# Altium footprint library PcbLib.PcbLib: 65 footprints (part 4 of 5)
Each footprint in its own frame and in the unit in brackets; x right, y up, seen from the top. Pads: shape width x height; smd on the part's side, far side on the other; paste and mask are expansions set on the pad; w line width, h text height; cw(c..) or ccw(c..) is an arc to the next point about the centre after c.
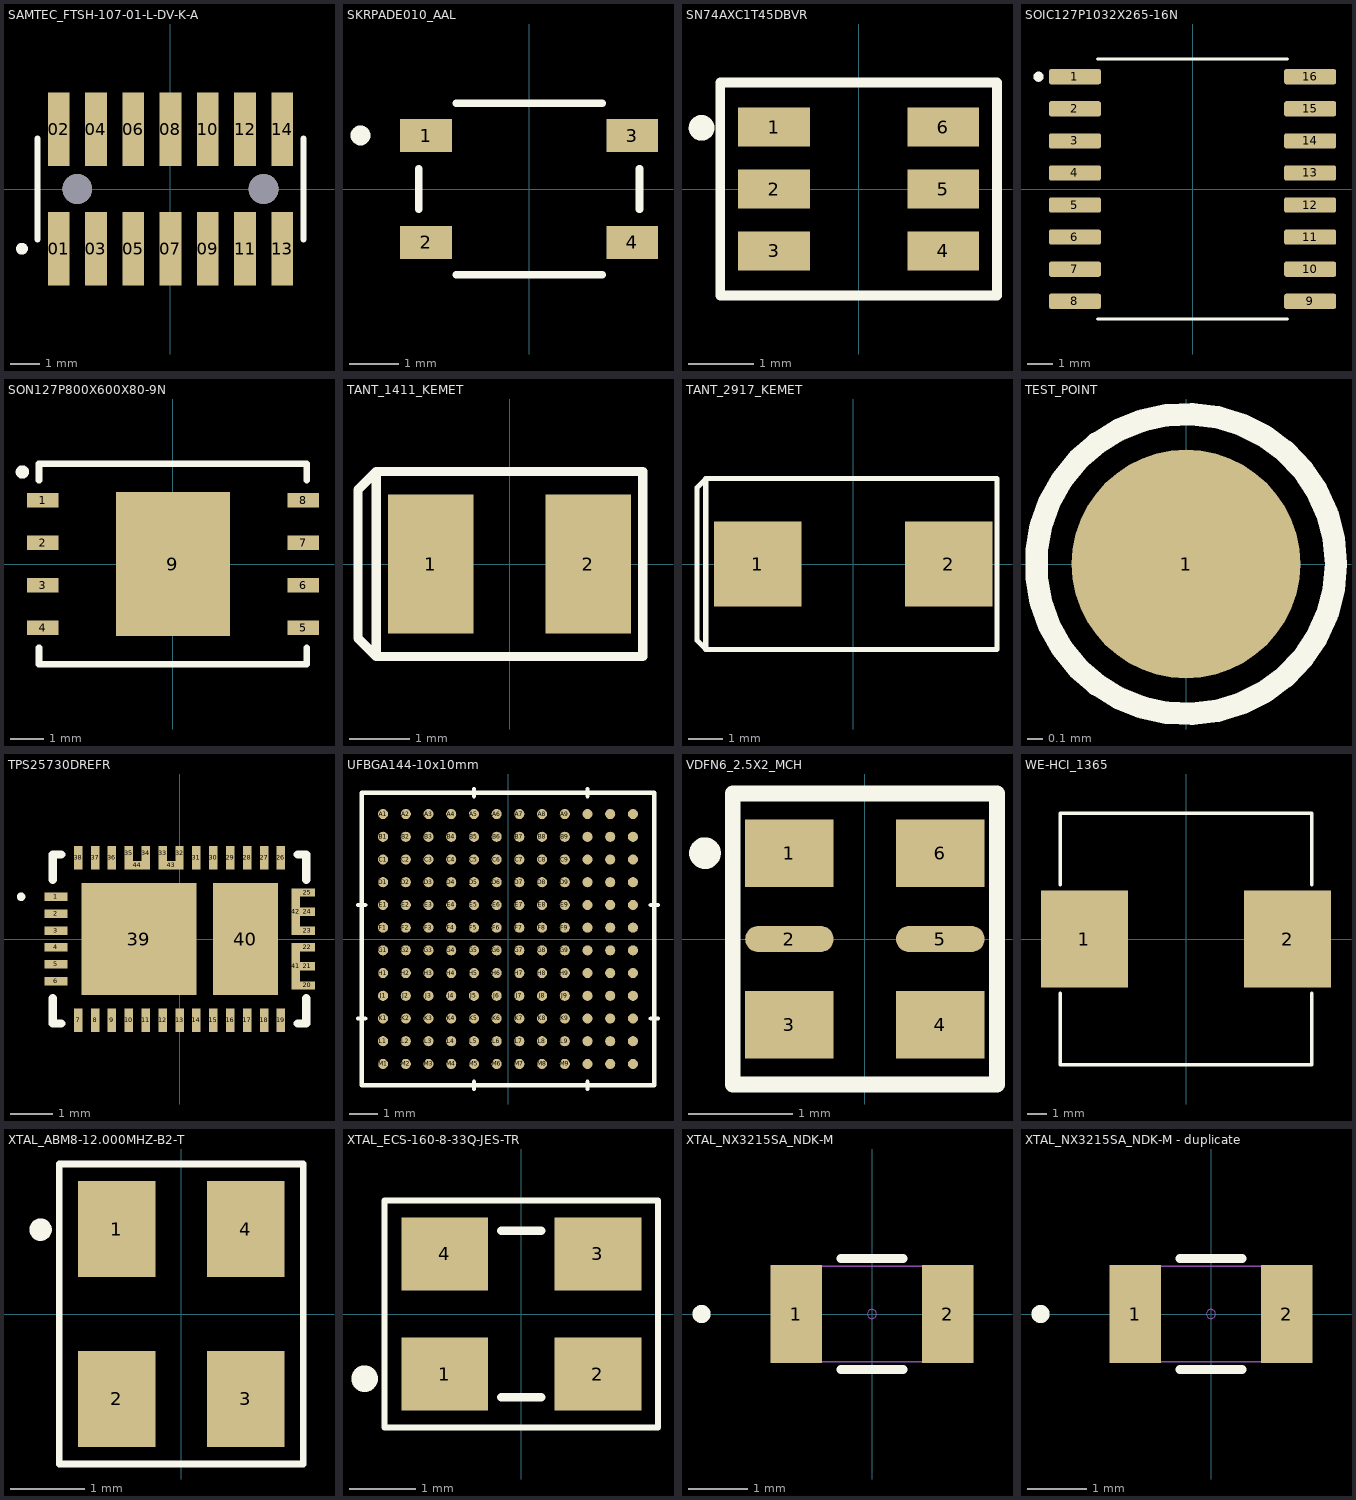
[diagram p3: the footprints below, top view; thin cyan lines are the x and y axes]

## SAMTEC_FTSH-107-01-L-DV-K-A [mm]
pads (16):
  rect 0.74x2.5 smd: 01(-3.81,-2.035) 02(-3.81,2.035) 03(-2.54,-2.035) 04(-2.54,2.035) 05(-1.27,-2.035) 06(-1.27,2.035) 07(0,-2.035) 08(0,2.035) 09(1.27,-2.035) 10(1.27,2.035) 11(2.54,-2.035) 12(2.54,2.035) 13(3.81,-2.035) 14(3.81,2.035)
  round 1.02 hole 1.02 unplated: ""(-3.175,0) ""(3.175,0)
Top Overlay:
  circle w0.2: c-5.06,-2.035 r0.1
  lines w0.2: -4.53,-1.715 -4.53,1.715 ; 4.53,-1.715 4.53,1.715
Bottom Solder:
  circle w0: c-3.175,0 r0.561
  circle w0: c3.175,0 r0.561
3D body "FTSH-107-01-L-DV-K-A.stp": height 6.1, standoff -0.89, extent -4.445,-2.921 4.445,2.921

## SKRPADE010_AAL [mm]
pads (4):
  rect 1.041x0.66 smd paste+0 mask+0: 1(-2.075,1.075) 2(-2.075,-1.075) 3(2.075,1.075) 4(2.075,-1.075)
Top Overlay:
  lines w0.152: -2.222,-0.412 -2.222,0.412 ; -1.47,-1.727 1.47,-1.727 ; -1.47,1.727 1.47,1.727 ; 2.222,-0.412 2.222,0.412
  lines w0.3: -3.429,1.041 cw(c-3.396,1.079) -3.419,1.035
3D body "skrpade010.stp": height 2.5, standoff 0, extent -2.3,-1.6 2.3,1.6

## SN74AXC1T45DBVR [mm]
pads (6):
  rect 1.1x0.6 smd mask+0.07: 1(-1.3,0.95) 2(-1.3,0) 3(-1.3,-0.95) 4(1.3,-0.95) 5(1.3,0) 6(1.3,0.95)
Top Overlay:
  lines w0.152: -2.127,-1.638 2.127,-1.638 2.127,1.638 -2.127,1.638 -2.127,-1.638
  lines w0.254: -2.343,0.947 ccw(c-2.413,0.94) -2.342,0.94
3D body "SN74AXC1T45DBVR.STEP": height 1.45, standoff 0, extent -1.4,-1.45 1.4,1.45

## SOIC127P1032X265-16N [mm]
height 2.65
pads (16):
  rrect25% 2.05x0.6 smd mask+0.05: 1(-4.655,4.445) 2(-4.655,3.175) 3(-4.655,1.905) 4(-4.655,0.635) 5(-4.655,-0.635) 6(-4.655,-1.905) 7(-4.655,-3.175) 8(-4.655,-4.445) 9(4.655,-4.445) 10(4.655,-3.175) 11(4.655,-1.905) 12(4.655,-0.635) 13(4.655,0.635) 14(4.655,1.905) 15(4.655,3.175) 16(4.655,4.445)
Top Overlay:
  circle w0.2: c-6.096,4.445 r0.1
  lines w0.127: -3.75,-5.15 3.75,-5.15 ; -3.75,5.15 3.75,5.15
3D body "step_temp.STEP": height 2.65, standoff 0, extent -5.162,-5.15 5.162,5.15

## SON127P800X600X80-9N [mm]
pads (9):
  rect 0.94x0.44 smd: 1(-3.895,1.905) 2(-3.895,0.635) 3(-3.895,-0.635) 4(-3.895,-1.905) 5(3.895,-1.905) 6(3.895,-0.635) 7(3.895,0.635) 8(3.895,1.905)
  rect 3.4x4.3 smd paste-3: 9(0,0)
Top Overlay:
  circle w0.2: c-4.5,2.75 r0.1
  lines w0.2: -4,-2.5 -4,-3 4,-3 4,-2.5 ; -4,2.5 -4,3 4,3 4,2.5
Top Paste:
  region: -0.185,0.185 -1.335,0.185 -1.335,1.785 -0.185,1.785
  region: -0.185,-1.785 -1.335,-1.785 -1.335,-0.185 -0.185,-0.185
  region: 1.335,0.185 0.185,0.185 0.185,1.785 1.335,1.785
  region: 1.335,-1.785 0.185,-1.785 0.185,-0.185 1.335,-0.185
3D body "step_temp.STEP": height 0.8, standoff 0, extent -4,-3 4,3

## TANT_1411_KEMET [mm]
pads (2):
  rect 1.405x2.3 smd paste+0 mask+0: 1(-1.3,0) 2(1.3,0)
Top Overlay:
  lines w0.152: -2.2,-1.527 -2.5,-1.227 -2.5,1.227 -2.2,1.527 ; -2.2,-1.527 -1.977,-1.527 1.977,-1.527 2.2,-1.527 2.2,1.527 1.977,1.527 -1.977,1.527 -2.2,1.527 ; -2.2,-1.527 -2.2,1.527
3D body "CAPMP37X28_21N_KEM.step": height 2.15, standoff 0, extent -1.85,-1.4 1.85,1.4

## TANT_2917_KEMET [mm]
pads (2):
  rect 2.56x2.5 smd paste+0 mask+0: 1(-2.794,0) 2(2.794,0)
Top Overlay:
  lines w0.152: -4.572,-2.228 -4.318,-2.482 -4.318,2.482 -4.572,2.228 -4.572,-2.228 ; -4.318,-2.5 4.2,-2.5 4.2,2.5 -4.318,2.5 -4.318,-2.5
3D body "CTSM_TCM2NKKO_7343_L7.6W4.6H3.1T0.13S1.3F2.5A3.8B0.65P0.9R1X0.2.step": height 3.11, standoff 0, extent -3.8,-2.314 3.8,2.286

## TEST_POINT [mil]
pads (1):
  round 60 smd paste-23 mask+1.97: 1(0,0)
Top Overlay:
  circle w5.91: c0,0 r39.37

## TPS25730DREFR [mm]
pads (44):
  rect 0.55x0.2 smd: 1(-2.925,1) 2(-2.925,0.6) 3(-2.925,0.2) 4(-2.925,-0.2) 5(-2.925,-0.6) 6(-2.925,-1)
  rect 0.2x0.55 smd: 7(-2.4,-1.925) 8(-2,-1.925) 9(-1.6,-1.925) 10(-1.2,-1.925) 11(-0.8,-1.925) 12(-0.4,-1.925) 13(0,-1.925) 14(0.4,-1.925) 15(0.8,-1.925) 16(1.2,-1.925) 17(1.6,-1.925) 18(2,-1.925) 19(2.4,-1.925) 26(2.4,1.925) 27(2,1.925) 28(1.6,1.925) 29(1.2,1.925) 30(0.8,1.925) 31(0.4,1.925) 36(-1.6,1.925) 37(-2,1.925) 38(-2.4,1.925)
  rect 0.35x0.2 smd: 20(3.025,-1.1) 21(3.025,-0.65) 22(3.025,-0.2) 23(3.025,0.2) 24(3.025,0.65) 25(3.025,1.1)
  rect 0.2x0.35 smd: 32(-0.001,2.025) 33(-0.401,2.025) 34(-0.801,2.025) 35(-1.201,2.025)
  rect 2.72x2.65 smd: 39(-0.965,0)
  rect 1.53x2.65 smd: 40(1.56,0)
  rect 0.2x1.1 smd: 41(2.749,-0.65) 42(2.75,0.65)
  rect 0.6x0.2 smd: 43(-0.201,1.75) 44(-1.001,1.75)
Top Overlay:
  lines w0.1: -3.8,1 cw(c-3.75,1) -3.7,1 cw(c-3.75,1) -3.8,1
  lines w0.2: -3,-1.4 -3,-2 -2.8,-2 ; -3,1.4 -3,2 -2.8,2 ; 2.8,-2 3,-2 3,-1.4 ; 2.8,2 3,2 3,1.4
3D body "TPS25730DREFR.stp": height 0.8, standoff 0, extent -3,-2 3,2

## UFBGA144-10x10mm [mm]
pads (144):
  round 0.356 smd paste+0 mask+0: A1(-4.4,4.4) A2(-3.6,4.4) A3(-2.8,4.4) A4(-2,4.4) A5(-1.2,4.4) A6(-0.4,4.4) A7(0.4,4.4) A8(1.2,4.4) A9(2,4.4) A10(2.8,4.4) A11(3.6,4.4) A12(4.4,4.4) B1(-4.4,3.6) B2(-3.6,3.6) B3(-2.8,3.6) B4(-2,3.6) B5(-1.2,3.6) B6(-0.4,3.6) B7(0.4,3.6) B8(1.2,3.6) B9(2,3.6) B10(2.8,3.6) B11(3.6,3.6) B12(4.4,3.6) C1(-4.4,2.8) C2(-3.6,2.8) C3(-2.8,2.8) C4(-2,2.8) C5(-1.2,2.8) C6(-0.4,2.8) C7(0.4,2.8) C8(1.2,2.8) C9(2,2.8) C10(2.8,2.8) C11(3.6,2.8) C12(4.4,2.8) D1(-4.4,2) D2(-3.6,2) D3(-2.8,2) D4(-2,2) D5(-1.2,2) D6(-0.4,2) D7(0.4,2) D8(1.2,2) D9(2,2) D10(2.8,2) D11(3.6,2) D12(4.4,2) E1(-4.4,1.2) E2(-3.6,1.2) E3(-2.8,1.2) E4(-2,1.2) E5(-1.2,1.2) E6(-0.4,1.2) E7(0.4,1.2) E8(1.2,1.2) E9(2,1.2) E10(2.8,1.2) E11(3.6,1.2) E12(4.4,1.2) F1(-4.4,0.4) F2(-3.6,0.4) F3(-2.8,0.4) F4(-2,0.4) F5(-1.2,0.4) F6(-0.4,0.4) F7(0.4,0.4) F8(1.2,0.4) F9(2,0.4) F10(2.8,0.4) F11(3.6,0.4) F12(4.4,0.4) G1(-4.4,-0.4) G2(-3.6,-0.4) G3(-2.8,-0.4) G4(-2,-0.4) G5(-1.2,-0.4) G6(-0.4,-0.4) G7(0.4,-0.4) G8(1.2,-0.4) G9(2,-0.4) G10(2.8,-0.4) G11(3.6,-0.4) G12(4.4,-0.4) H1(-4.4,-1.2) H2(-3.6,-1.2) H3(-2.8,-1.2) H4(-2,-1.2) H5(-1.2,-1.2) H6(-0.4,-1.2) H7(0.4,-1.2) H8(1.2,-1.2) H9(2,-1.2) H10(2.8,-1.2) H11(3.6,-1.2) H12(4.4,-1.2) J1(-4.4,-2) J2(-3.6,-2) J3(-2.8,-2) J4(-2,-2) J5(-1.2,-2) J6(-0.4,-2) J7(0.4,-2) J8(1.2,-2) J9(2,-2) J10(2.8,-2) J11(3.6,-2) J12(4.4,-2) K1(-4.4,-2.8) K2(-3.6,-2.8) K3(-2.8,-2.8) K4(-2,-2.8) K5(-1.2,-2.8) K6(-0.4,-2.8) K7(0.4,-2.8) K8(1.2,-2.8) K9(2,-2.8) K10(2.8,-2.8) K11(3.6,-2.8) K12(4.4,-2.8) L1(-4.4,-3.6) L2(-3.6,-3.6) L3(-2.8,-3.6) L4(-2,-3.6) L5(-1.2,-3.6) L6(-0.4,-3.6) L7(0.4,-3.6) L8(1.2,-3.6) L9(2,-3.6) L10(2.8,-3.6) L11(3.6,-3.6) L12(4.4,-3.6) M1(-4.4,-4.4) M2(-3.6,-4.4) M3(-2.8,-4.4) M4(-2,-4.4) M5(-1.2,-4.4) M6(-0.4,-4.4) M7(0.4,-4.4) M8(1.2,-4.4) M9(2,-4.4) M10(2.8,-4.4) M11(3.6,-4.4) M12(4.4,-4.4)
Top Overlay:
  lines w0.152: -5.283,-2.8 -5.029,-2.8 ; -5.283,1.2 -5.029,1.2 ; -1.2,-5.283 -1.2,-5.029 ; -1.2,5.029 -1.2,5.283 ; 2.8,-5.283 2.8,-5.029 ; 2.8,5.029 2.8,5.283 ; 5.029,-2.8 5.283,-2.8 ; 5.029,1.2 5.283,1.2 ; -5.156,-5.156 5.156,-5.156 5.156,5.156 -5.156,5.156 -5.156,-5.156
3D body "UFBGA144-10x10mm.step": height 0.61, standoff 0, extent -5.029,-5.029 5.029,5.029

## VDFN6_2.5X2_MCH [mm]
pads (6):
  rect 0.85x0.65 smd paste-0.325 mask+0: 1(-0.725,0.825) 3(-0.725,-0.825) 4(0.725,-0.825) 6(0.725,0.825)
  oval 0.85x0.25 smd paste+0 mask+0: 2(-0.725,0) 5(0.725,0)
Top Overlay:
  circle w0.152: c-1.537,0.825 r0.076
  lines w0.152: -1.27,-1.397 -1.27,1.397 1.27,1.397 1.27,-1.397 -1.27,-1.397
3D body "VDFN6_25X2_MCH.step": height 0.65, standoff 0, extent -1,-1.25 1,1.25

## WE-HCI_1365 [mm]
pads (2):
  rect 4.5x5 smd: 1(-5.25,0) 2(5.25,0)
Top Overlay:
  lines w0.2: -6.5,-2.8 -6.5,-6.5 6.5,-6.5 6.5,-2.8 ; -6.5,2.8 -6.5,6.5 6.5,6.5 6.5,2.8
3D body "WE-HCI_1365_7443551+%28rev1%29.stp": height 6.17, standoff -0.03, extent -6.5,-6.4 6.5,6.4

## XTAL_ABM8-12.000MHZ-B2-T [mm]
height 0.8
pads (4):
  rect 1.05x1.3 smd: 1(-0.875,1.15) 2(-0.875,-1.15) 3(0.875,-1.15) 4(0.875,1.15)
Top Overlay:
  circle w0.152: c-1.905,1.143 r0.076
  lines w0.089: -1.651,-2.032 1.651,-2.032 1.651,2.032 -1.651,2.032 -1.651,-2.032
3D body "step_temp.STEP": height 0.8, standoff 0, extent -1.25,-1.6 1.25,1.6

## XTAL_ECS-160-8-33Q-JES-TR [mm]
pads (4):
  rect 1.3x1.1 smd: 1(-1.15,-0.9) 2(1.15,-0.9) 3(1.15,0.9) 4(-1.15,0.9)
Top Overlay:
  circle w0.2: c-2.35,-0.97 r0.1
  lines w0.091: -2.05,-1.7 2.05,-1.7 2.05,1.7 -2.05,1.7 -2.05,-1.7
  lines w0.127: -0.3,-1.25 0.3,-1.25 ; -0.3,1.25 0.3,1.25
3D body "step_temp.STEP": height 0.8, standoff 0, extent -1.6,-1.25 1.6,1.25

## XTAL_NX3215SA_NDK-M [mil]
pads (2):
  rect 34x65 smd paste+0 mask+0: 1(-50,0) 2(50,0)
Top Overlay:
  circle w6: c-112.5,0 r3
  lines w6: -20.53,-36.5 20.53,-36.5 ; -20.53,36.5 20.53,36.5
Mechanical 13:
  circle w0: c0,0 r3
  lines w1: -65,-31.5 -65,31.5 65,31.5 65,-31.5 -65,-31.5
3D body "XTAL_NX3215SA_NDK.step": height 35.12, standoff 0, extent -65,-31.5 65,31.5

## XTAL_NX3215SA_NDK-M - duplicate [mil]
pads (2):
  rect 34x65 smd paste+0 mask+0: 1(-50,0) 2(50,0)
Top Overlay:
  circle w6: c-112.5,0 r3
  lines w6: -20.53,-36.5 20.53,-36.5 ; -20.53,36.5 20.53,36.5
Mechanical 13:
  circle w0: c0,0 r3
  lines w1: -65,-31.5 65,-31.5 65,31.5 -65,31.5 -65,-31.5
3D body "XTAL_NX3215SA_NDK.step": height 35.12, standoff 0, extent -65,-31.5 65,31.5